# Altium schematic symbol library C1608X7R1H104K080DA.SchLib: 1 symbol
Pins are listed as number, name and electrical type; pins without a type are passive.

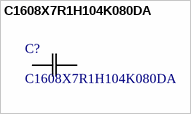
[diagram p0: symbol C1608X7R1H104K080DA]

## C1608X7R1H104K080DA
designator C?
No Description Available; Manufacturer_Name: TDK; Copyright: Copyright (C) 2026 Ultra Librarian. All rights reserved.; Manufacturer_Part_Number: C1608X7R1H104K080DA
footprint CAP_C1608_TDK
pins: 1, 2